# Altium schematic symbol library BC639.SchLib: 1 symbol
Pins are listed as number, name and electrical type; pins without a type are passive.

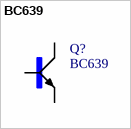
[diagram p0: symbol BC639]

## BC639
designator Q?
Bipolar _BJT_ Transistor NPN 80V 1A 200MHz 625mW Through Hole TO-92-3; MF: ON Semiconductor; SnapEDA_Link: https://www.snapeda.com/parts/BC639/ON%20Semiconductor/view-part/761111/?ref=snap; Price: None; Availability: Unavailable; Package: TO-92 Continental Device; MP: BC639; Value: *
footprint *SOT54D_BC639(Primary)
pins: B, C, E